# Altium schematic symbol library AP3019AKTR-G1.SchLib: 1 symbol
Pins are listed as number, name and electrical type; pins without a type are passive.

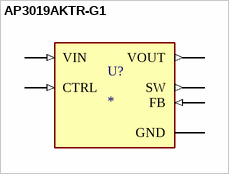
[diagram p0: symbol AP3019AKTR-G1]

## AP3019AKTR-G1
designator U?
LED Driver IC 1 Output DC DC Regulator Step-Up (Boost) PWM Dimming 550mA (Switch) TSOT-23-6; MF: Diodes Inc.; MP: AP3019AKTR-G1; Package: SOT-23-6 Diodes Inc.; Check_prices: https://www.snapeda.com/parts/AP3019AKTR-G1/Diodes+Inc./view-part/?ref=eda; Value: *; Purchase-URL: https://pricing.snapeda.com/search/part/AP3019AKTR-G1/?ref=eda; SnapEDA_Link: https://www.snapeda.com/parts/AP3019AKTR-G1/Diodes+Inc./view-part/?ref=snap; Availability: In Stock; Price: None
footprint SOT95P282X145-6N
pins: 1 SW (out), 2 GND (power), 3 FB (in), 4 CTRL (in), 5 VOUT (out), 6 VIN (in)